# Altium schematic symbol library CONN_Terminal.SchLib: 1 symbol
Pins are listed as number, name and electrical type; pins without a type are passive.

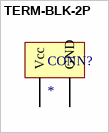
[diagram p0: symbol TERM-BLK-2P]

## TERM-BLK-2P
designator CONN?
Manufacturer: On-Shore Technology; Manufacturer Part Number: OSTTC022162; Description: TERM BLOCK 5.08MM VERT 2POS PCB; Plating: Steel; Max Current Rating: 15A; Number of Levels: 1; Number of Positions Per Level: 2; Voltage: 300V; Wire Gauge (Max): 22AWG; Wire Gauge (Min): 14AWG; Pitch: 0.2inch; Supplier 1: Digi-Key; Stock 1: 61416; Pricing 1: 1=0.8, 10=0.437, 25=0.326, 50=0.2908, 100=0.285, 250=0.2508, 500=0.228, 1000=0.2052, 5000=0.1539 (USD); Mount: Through Hole; Color: Blue; Contact Plating: Tin; Housing Color: Blue; Contact Material: Brass; Housing Material: Thermoplastic; Min Operating Temperature: -30°C; Max Operating Temperature: 105°C; Number of Rows: 1; Packaging: Bulk; Current: 15A; Termination: Screw; Number of Contacts: 2; Number of Positions: 2; Length: 10.2mm; Height: 10mm; Width: 7.6mm; Flammability Rating: UL94 V-0; ComponentLink1URL: http://www.jameco.com/Jameco/Products/ProdDS/2120647.pdf; ComponentLink1Description: http://www.jameco.com/Jameco/Products/ProdDS/2120647.pdf; ComponentLink2URL: http://www.on-shore.com/wp-content/uploads/2015/09/osttcxx2162.pdf; ComponentLink2Description: http://www.on-shore.com/wp-content/uploads/2015/09/osttcxx2162.pdf; Supplier Part Number 1: ED2609-ND
footprint TERM-BLK-2P
pins: 1 Vcc, 2 GND